# Altium schematic symbol library tdk.SchLib: 1 symbol
Pins are listed as number, name and electrical type; pins without a type are passive.

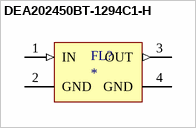
[diagram p0: symbol DEA202450BT-1294C1-H]

## DEA202450BT-1294C1-H
designator FL?
Multilayer Chip Band Pass Filters For 2.4GHz W-LAN/Bluetooth
footprint DEA202450BT-1294C1-H
pins: 1 IN (in), 2 GND (power), 3 OUT (out), 4 GND (power)